# Altium footprint library 2019-09-20_17-09-41.PcbLib: 3 footprints
Each footprint in its own frame and in the unit in brackets; x right, y up, seen from the top. Pads: shape width x height; smd on the part's side, far side on the other; paste and mask are expansions set on the pad; w line width, h text height; cw(c..) or ccw(c..) is an arc to the next point about the centre after c.
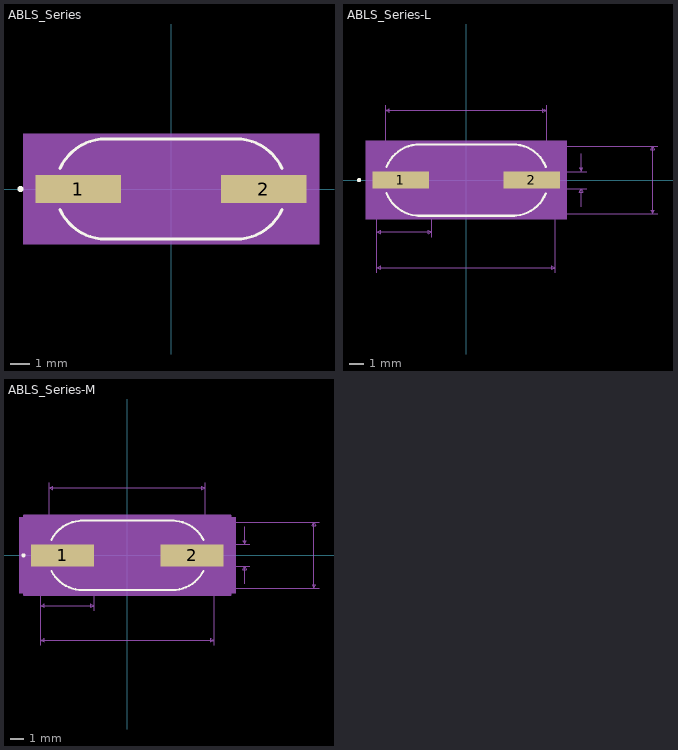
[diagram p0: the footprints below, top view; thin cyan lines are the x and y axes]

## ABLS_Series [mil]
pads (2):
  rect 170x56 smd paste+0 mask+0: 1(-185,0) 2(185,0)
Top Overlay:
  circle w6: c-300,0 r3
  lines w6: -221.16,-41.1 ccw(c-130,0) -130,-100 ; -221.16,41.1 cw(c-130,0) -130,100 ; -135,-100 135,-100 ; -135,100 135,100 ; 130,-100 ccw(c130,0) 221.16,-41.1 ; 130,100 cw(c130,0) 221.16,41.1
Mechanical 5:
  region: 295,-110 -295,-110 -295,110 295,110
Mechanical 13:
  circle w0: c-245,0 r3
  lines w0: -130,-95 cw(c-130,0) -130,95 ; -130,-75 cw(c-130,0) -130,75 ; 130,-95 ccw(c130,0) 130,95 ; 130,-75 ccw(c130,0) 130,75
  lines w1: -130,-95 130,-95 ; -130,-75 130,-75 ; -130,75 130,75 ; -130,95 130,95
Mechanical 15:
  region: 280,-105 -280,-105 -280,105 280,105
  lines w6: -280,-105 280,-105 280,105 -280,105 -280,-105
3D body: height 10, standoff 0, extent 0,0 10,10
3D body: height 162.01, standoff 0, extent -250.01,-95 249.99,95

## ABLS_Series-L [mil]
pads (2):
  rect 158x48 smd paste+0 mask+0: 1(-183,0) 2(183,0)
Top Overlay:
  circle w6: c-300,0 r3
  lines w6: -222.86,-37.1 ccw(c-130,0) -130,-100 ; -222.86,37.1 cw(c-130,0) -130,100 ; -135,-100 135,-100 ; -135,100 135,100 ; 130,-100 ccw(c130,0) 222.86,-37.1 ; 130,100 cw(c130,0) 222.86,37.1
Mechanical 5:
  region: 281,-110 -281,-110 -281,110 281,110
Mechanical 7:
  lines w1: -250,-260 -250,0 -250,-160 ; -225,0 -225,210 ; -96,-160 -96,0 ; 225,0 225,210 ; 250,-260 250,0 ; 272,-95 537,-95 ; 272,-24 337,-24 ; 272,24 337,24 ; 272,95 537,95 ; 322,-74 322,-24 ; 322,74 322,24 ; -250,-245 250,-245 ; -250,-245 -240,-240 -240,-250 -250,-245 ; -250,-145 -96,-145 ; -250,-145 -240,-140 -240,-150 -250,-145 ; -225,195 225,195 ; -225,195 -215,200 -215,190 -225,195 ; -96,-145 -106,-140 -106,-150 -96,-145 ; 225,195 215,200 215,190 225,195 ; 250,-245 240,-240 240,-250 250,-245 ; 322,-24 317,-34 327,-34 322,-24 ; 322,24 317,34 327,34 322,24 ; 522,-95 522,95 ; 522,-95 517,-85 527,-85 522,-95 ; 522,95 517,85 527,85 522,95
  text "Default Padstyle: RX158Y48D0T" at -362.5,-365 h50
  text "Alt 1 Padstyle: OX60Y90D30P" at -337.5,-415 h50
  text "Alt 2 Padstyle: OX90Y60D30P" at -337.5,-465 h50
  text "0.024in/0.61mm" at 342,-12.5 h25
  text "0.19in/4.826mm" at 542,-12.5 h25
  text "0.45in/11.43mm" at -87.5,215 h25
  text "0.5in/12.7mm" at -75,-290 h25
  text "0.154in/3.912mm" at -266.75,-190 h25
Mechanical 13:
  circle w0: c-245,0 r3
  lines w0: -130,-95 cw(c-130,0) -130,95 ; -130,-75 cw(c-130,0) -130,75 ; 130,-95 ccw(c130,0) 130,95 ; 130,-75 ccw(c130,0) 130,75
  lines w1: -130,-95 130,-95 ; -130,-75 130,-75 ; -130,75 130,75 ; -130,95 130,95
Mechanical 15:
  region: 266,-99 -266,-99 -266,99 266,99
  lines w6: -266,-99 -266,99 266,99 266,-99 -266,-99
3D body: height 10, standoff 0, extent 0,0 10,10

## ABLS_Series-M [mil]
pads (2):
  rect 182x64 smd paste+0 mask+0: 1(-187,0) 2(187,0)
Top Overlay:
  circle w6: c-300,0 r3
  lines w6: -219.25,-45.1 ccw(c-130,0) -130,-100 ; -219.25,45.1 cw(c-130,0) -130,100 ; -135,-100 135,-100 ; -135,100 135,100 ; 130,-100 ccw(c130,0) 219.25,-45.1 ; 130,100 cw(c130,0) 219.25,45.1
Mechanical 5:
  region: 313,-110 -313,-110 -313,110 313,110
Mechanical 7:
  lines w1: -250,-260 -250,0 -250,-160 ; -225,0 -225,210 ; -96,-160 -96,0 ; 225,0 225,210 ; 250,-260 250,0 ; 288,-95 553,-95 ; 288,-32 353,-32 ; 288,32 353,32 ; 288,95 553,95 ; 338,-82 338,-32 ; 338,82 338,32 ; -250,-245 250,-245 ; -250,-245 -240,-240 -240,-250 -250,-245 ; -250,-145 -96,-145 ; -250,-145 -240,-140 -240,-150 -250,-145 ; -225,195 225,195 ; -225,195 -215,200 -215,190 -225,195 ; -96,-145 -106,-140 -106,-150 -96,-145 ; 225,195 215,200 215,190 225,195 ; 250,-245 240,-240 240,-250 250,-245 ; 338,-32 333,-42 343,-42 338,-32 ; 338,32 333,42 343,42 338,32 ; 538,-95 538,95 ; 538,-95 533,-85 543,-85 538,-95 ; 538,95 533,85 543,85 538,95
  text "Default Padstyle: RX182Y64D0T" at -362.5,-365 h50
  text "Alt 1 Padstyle: OX60Y90D30P" at -337.5,-415 h50
  text "Alt 2 Padstyle: OX90Y60D30P" at -337.5,-465 h50
  text "0.024in/0.61mm" at 358,-12.5 h25
  text "0.19in/4.826mm" at 558,-12.5 h25
  text "0.45in/11.43mm" at -87.5,215 h25
  text "0.5in/12.7mm" at -75,-290 h25
  text "0.154in/3.912mm" at -266.75,-190 h25
Mechanical 13:
  circle w0: c-245,0 r3
  lines w0: -130,-95 cw(c-130,0) -130,95 ; -130,-75 cw(c-130,0) -130,75 ; 130,-95 ccw(c130,0) 130,95 ; 130,-75 ccw(c130,0) 130,75
  lines w1: -130,-95 130,-95 ; -130,-75 130,-75 ; -130,75 130,75 ; -130,95 130,95
Mechanical 15:
  region: 298,-115 -298,-115 -298,115 298,115
  lines w6: -298,-115 -298,115 298,115 298,-115 -298,-115
3D body: height 162.01, standoff 0, extent -249.99,-94.99 250.01,95.01
3D body: height 10, standoff 0, extent 0,0 10,10